# Altium schematic symbol library TP-STD-TEST_POINT.SchLib: 1 symbol
Pins are listed as number, name and electrical type; pins without a type are passive.

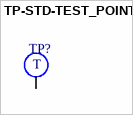
[diagram p0: symbol TP-STD-TEST_POINT]

## TP-STD-TEST_POINT
designator TP?  (value not drawn)
pins: 1 T